# EAGLE library part MA08-1-RF24 (library VehicleDriverParts)
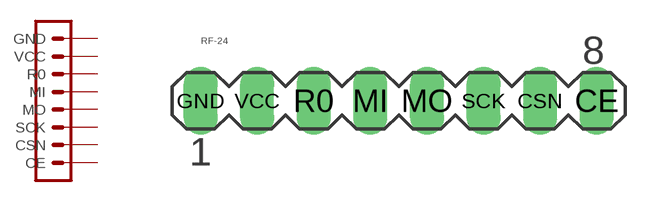
[diagram p2: symbol with the pads of MA08-1-RF24; footprint MA08-1-RF24]

Designator prefix -

## MA08-1-RF24  [MA08-1-RF24]
CE  CE  pas
CSN  CSN  pas
GND  GND  pwr
MI  MI  pas
MO  MO  pas
R0  R0  pas
SCK  SCK  pas
VCC  VCC  pwr

## Footprint MA08-1-RF24 (pad centres in mm)
PIN HEADER
drill 1.016 long: CE 8.89,0; CSN 6.35,0; GND -8.89,0; MI -1.27,0; MO 1.27,0; R0 -3.81,0; SCK 3.81,0; VCC -6.35,0